# EAGLE library part XFMR_750311880 (library wheat)
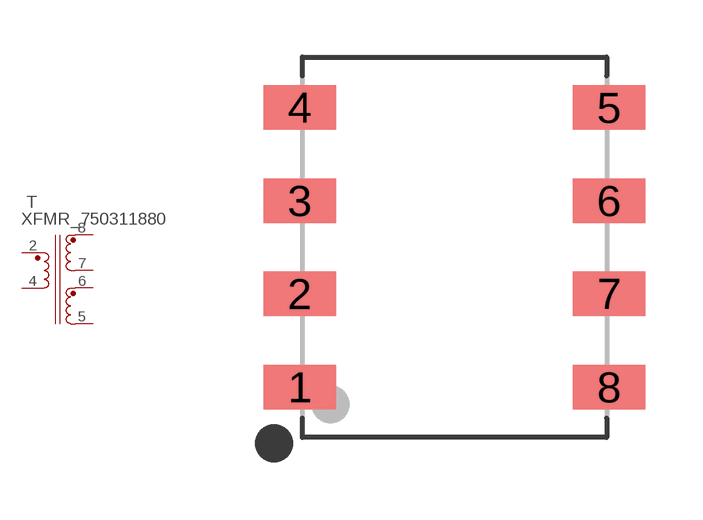
[diagram p241: symbol with the pads of XFMR_EP8_WURTH; footprint XFMR_EP8_WURTH]

Designator prefix T

## XFMR_750311880  [XFMR_EP8_WURTH]
2  PP  pas
4  PN  pas
5  S2N  pas
6  S2P  pas
7  S1N  pas
8  S1P  pas

## Footprint XFMR_EP8_WURTH (pad centres in mm)
smd 1.91 x 1.17: 1 -4.065,-3.675; 2 -4.065,-1.225; 3 -4.065,1.225; 4 -4.065,3.675; 5 4.065,3.675; 6 4.065,1.225; 7 4.065,-1.225; 8 4.065,-3.675